# EAGLE library part ALEXIOS_SN74ACT1073 (library CFT-PB0-revB)
SN74ACT1073 16-Bit Bus-Termination Array with Bus-Hold Function Datasheet <http://www.ti.com/lit/ds/symlink/sn74act1073.pdf>
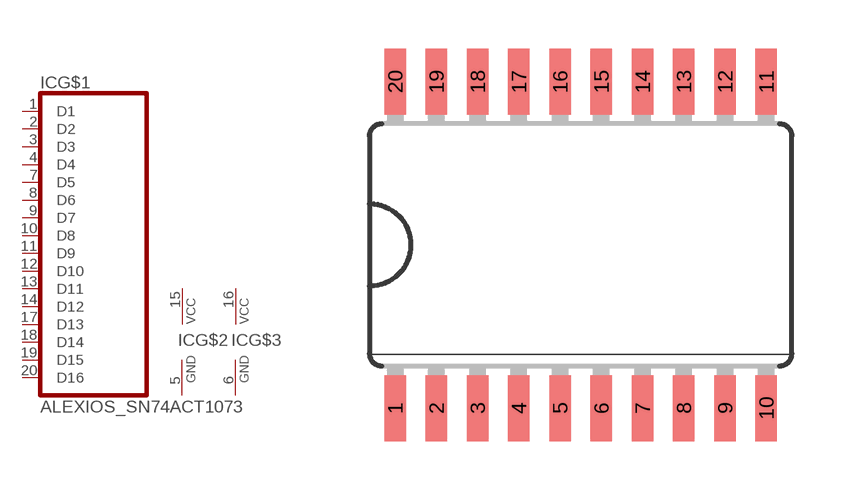
[diagram p8: symbol with the pads of ALEXIOS_SO20W; footprint ALEXIOS_SO20W]

Designator prefix IC; gates G$1=ALEXIOS_SN74ACT1073 G$2=ALEXIOS_PWRN G$3=ALEXIOS_PWRN

## ALEXIOS_SN74ACT1073  [ALEXIOS_SO20W]
1  G$1:D1  in
2  G$1:D2  in
3  G$1:D3  in
4  G$1:D4  in
5  G$2:GND  pwr
6  G$3:GND  pwr
7  G$1:D5  in
8  G$1:D6  in
9  G$1:D7  in
10  G$1:D8  in
11  G$1:D9  in
12  G$1:D10  in
13  G$1:D11  in
14  G$1:D12  in
15  G$2:VCC  pwr
16  G$3:VCC  pwr
17  G$1:D13  in
18  G$1:D14  in
19  G$1:D15  in
20  G$1:D16  in

## Footprint ALEXIOS_SO20W (pad centres in mm)
Wide Small Outline package 300 mil
smd 0.66 x 2.032: 1 -5.715,-5.029; 2 -4.445,-5.029; 3 -3.175,-5.029; 4 -1.905,-5.029; 5 -0.635,-5.029; 6 0.635,-5.029; 7 1.905,-5.029; 8 3.175,-5.029; 9 4.445,-5.029; 10 5.715,-5.029; 11 5.715,5.029; 12 4.445,5.029; 13 3.175,5.029; 14 1.905,5.029; 15 0.635,5.029; 16 -0.635,5.029; 17 -1.905,5.029; 18 -3.175,5.029; 19 -4.445,5.029; 20 -5.715,5.029